# Altium schematic symbol library led-lumiled.SCHLIB: 4 symbols
Pins are listed as number, name and electrical type; pins without a type are passive.

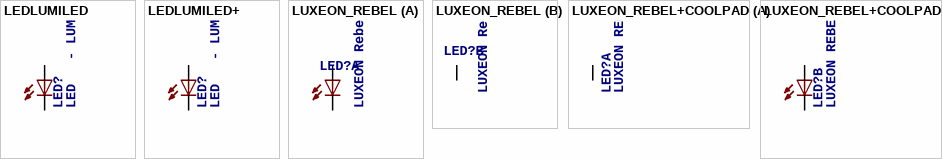
[diagram p0: symbols LEDLUMILED to LUXEON_REBEL+COOLPAD]

## LEDLUMILED
designator LED?, comment LED   - LUMILED® LXK2-PW12-R00, LXK2-PW12-S00, LXK2-PW14-U00, LXK2-PW14-V00 LXK2-PM12-R00, LXK2-PM12-S00, LXK2-PM14-U00 LXK2-PE12-Q00, LXK2-PE12-R00, LXK2-PE12-S00, LXK2-PE14-T00, LXK2-PE14-U00 LXK2-PB12-K00, LXK2-PB12-L00, LXK2-PB12-M00, LXK2-PB14-N00, LXK2-PB14-P00, LXK2-PB14-Q00 LXK2-PR12-L00, LXK2-PR12-M00, LXK2-PR14-Q00, LXK2-PR14-R00 LXK2-PD12-Q00, LXK2-PD12-R00, LXK2-PD12-S00 LXK2-PH12-R00, LXK2-PH12-S00 LXK2-PL12-P00, LXK2-PL12-Q00, LXK2-PL12-R00    Source: www.luxeon.com
OC_FARNELL: unknown; OC_NEWARK: unknown
footprint LUMILED
pins: 2+ A, 4- C

## LEDLUMILED+
designator LED?, comment LED   - LUMILED® LXK2-PW12-R00, LXK2-PW12-S00, LXK2-PW14-U00, LXK2-PW14-V00 LXK2-PM12-R00, LXK2-PM12-S00, LXK2-PM14-U00 LXK2-PE12-Q00, LXK2-PE12-R00, LXK2-PE12-S00, LXK2-PE14-T00, LXK2-PE14-U00 LXK2-PB12-K00, LXK2-PB12-L00, LXK2-PB12-M00, LXK2-PB14-N00, LXK2-PB14-P00, LXK2-PB14-Q00 LXK2-PR12-L00, LXK2-PR12-M00, LXK2-PR14-Q00, LXK2-PR14-R00 LXK2-PD12-Q00, LXK2-PD12-R00, LXK2-PD12-S00 LXK2-PH12-R00, LXK2-PH12-S00 LXK2-PL12-P00, LXK2-PL12-Q00, LXK2-PL12-R00    Source: www.luxeon.com
OC_FARNELL: unknown; OC_NEWARK: unknown
footprint LUMILED+
pins: 2+ A, 4- C

## LUXEON_REBEL
designator LED?, comment LUXEON Rebel   Display layer 93, Pins, and connect all contact points with a net. The thermal pads are defined in a separate gate with addlevel REQUEST. Draw a net named 'TH' and connect all thermal pads with it. Please read the Package's Description about DRC settings.   Source: http://www.lumileds.com/pdfs/AB32.pdf
OC_FARNELL: unknown; OC_NEWARK: unknown
footprint LUXEON_REBEL
part A pins: A A@1 A, C C@1 C
part B pins: TH TH@1 TH@2 TH@3 TH@4 TH (power)

## LUXEON_REBEL+COOLPAD
designator LED?, comment LUXEON REBEL LED with cooling pads Display Layer Refence in Board for more information   Stop and Cream Mask defined by Luxeon Rebel Footprint _customer.dxf
OC_FARNELL: unknown; OC_NEWARK: unknown
footprint LUXEON_REBEL+COOLPAD
part A pins: TH TH@1 TH@2 TH@3 TH@4 TH@5 TH@6 TH@7 TH@8 TH@9 TH@10 TH@11 TH@12 TH@13 TH@14 TH@15 TH@16 TH@17 TH@18 TH@19 TH@20 TH@21 TH@22 TH@23 TH@24 TH@25 TH@26 TH@27 TH@28 TH@29 TH@30 TH@31 TH@32 TH@33 TH@34 TH@35 TH (power)
part B pins: A A@1 A, C C@1 C